# Altium footprint library 522070485.PcbLib: 1 footprints
Each footprint in its own frame and in the unit in brackets; x right, y up, seen from the top. Pads: shape width x height; smd on the part's side, far side on the other; paste and mask are expansions set on the pad; w line width, h text height; cw(c..) or ccw(c..) is an arc to the next point about the centre after c.
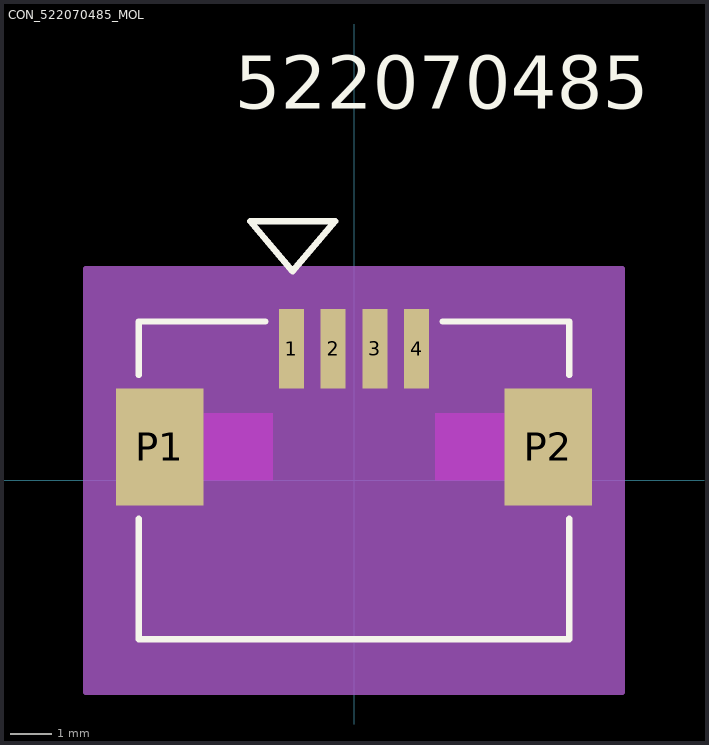
[diagram p0: the footprint, top view; thin cyan lines are the x and y axes]

## CON_522070485_MOL [mm]
pads (6):
  rect 0.6x1.9 smd paste+0 mask+0.076: 1(-1.5,3.15) 2(-0.5,3.15) 3(0.5,3.15) 4(1.5,3.15)
  rect 2.1x2.8 smd paste+0 mask+0.076: P1(-4.65,0.8) P2(4.65,0.8)
Top Overlay:
  lines w0.152: -5.15,-0.92 -5.15,-3.8 5.15,-3.8 5.15,-0.92 ; -5.15,2.52 -5.15,3.8 -2.12,3.8 ; 2.12,3.8 5.15,3.8 5.15,2.52 ; -2.483,6.198 -0.451,6.198 -1.467,5.004 -2.483,6.198
  text "522070485" at -2.857,8.89 h1.27
Keep-Out Layer:
  region: -1.95,0 -1.95,1.6 -3.6,1.6 -3.6,0
  region: 1.95,0 1.95,1.6 3.6,1.6 3.6,0
Mechanical 13:
  lines w0.127: -5.15,-3.8 5.15,-3.8 5.15,3.8 -5.15,3.8 -5.15,-3.8 ; -2.483,6.198 -0.451,6.198 -1.467,5.004 -2.483,6.198
  text "522070485" at -2.857,8.89 h1.27
Mechanical 15:
  region: 6.42,5.07 -6.42,5.07 -6.42,-5.07 6.42,-5.07
  lines w0.127: -6.42,-5.07 -6.42,5.07 6.42,5.07 6.42,-5.07 -6.42,-5.07